# Altium schematic symbol library MyLibs_Misc.SchLib: 6 symbols
Pins are listed as number, name and electrical type; pins without a type are passive.

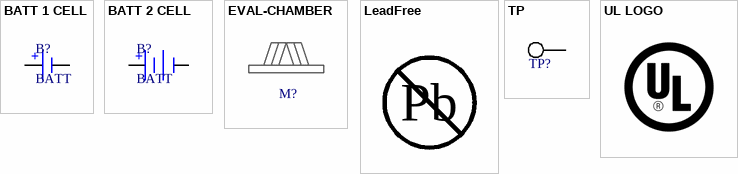
[diagram p0: symbols BATT 1 CELL to UL LOGO]

## BATT 1 CELL
designator B?, comment BATT
Single Cell Battery
pins: 1 +, 2 -

## BATT 2 CELL
designator B?, comment BATT
Dual Cell Battery
pins: 1 +, 2 -

## EVAL-CHAMBER
designator M?, comment 28800X  (value not drawn)
Chamber for smoke detector; Manufacturer: Accumold; Manufacturer Part Number: 28800X
footprint ADPD188BI-CHAMBER (Chamber for using with ADPD188BI)

## LeadFree
designator PB Logo?, comment Lead free  (value not drawn)  (no BOM)
Logo - "Lead Free"; Approved: NO; Package Reference: Lead_Free; Material: PCB; Manufacturer: N/A; Manufacturer Part Number: N/A
footprint Leadfree
text: Pb

## TP
designator TP?  (value not drawn)  (no BOM)
TEST POINT; Manufacturer: N/A; Manufacturer Part Number: TP
footprint TP (TEST POINT 1MM)
pins: 1

## UL LOGO
designator UL LOGO?, comment UL  (value not drawn)  (no BOM)
UL Logo; Approved: NO; Manufacturer: N/A; Tolerance: *; Value: *; Voltage: *; Dielectric: *; Manufacturer Part Number: N/A
footprint UL (UL LOGO)